# EAGLE library part DRV8801 (library DRV8801 Single Brushed Driver Carrier)
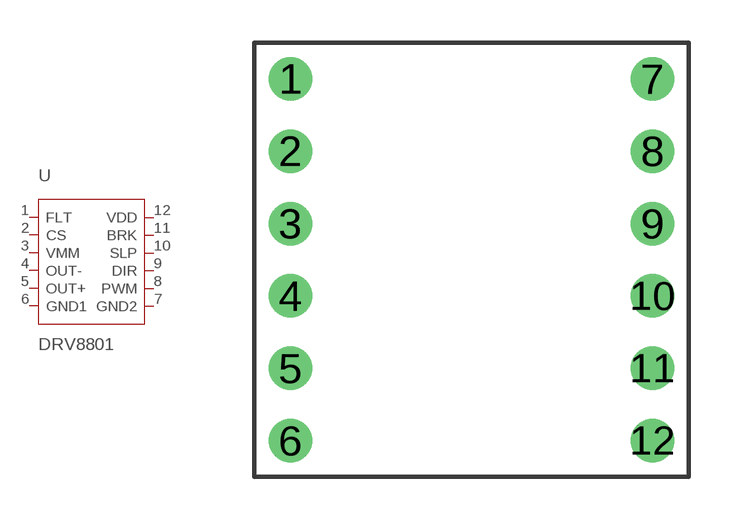
[diagram p0: symbol with the pads of DRV8801; footprint DRV8801]

Designator prefix -

## DRV8801  [DRV8801]
1  FLT
2  CS
3  VMM
4  OUT-
5  OUT+
6  GND1
7  GND2
8  PWM
9  DIR
10  SLP
11  BRK
12  VDD

## Footprint DRV8801 (pad centres in mm)
drill 1.016: 1 -2.54,0; 2 -2.54,-2.54; 3 -2.54,-5.08; 4 -2.54,-7.62; 5 -2.54,-10.16; 6 -2.54,-12.7; 7 10.16,0; 8 10.16,-2.54; 9 10.16,-5.08; 10 10.16,-7.62; 11 10.16,-10.16; 12 10.16,-12.7